# EAGLE library part TR24A (library X893)
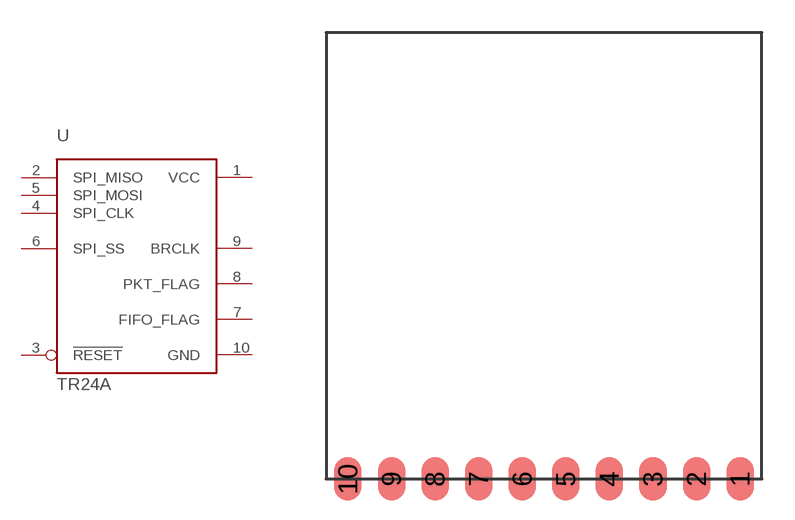
[diagram p4: symbol with the pads of TR24A; footprint TR24A]

Designator prefix -

## TR24A  [TR24A]
1  VCC
2  SPI_MISO
3  !RESET  in
4  SPI_CLK  in
5  SPI_MOSI  in
6  SPI_SS  in
7  FIFO_FLAG  out
8  PKT_FLAG  out
9  BRCLK  out
10  GND  pwr

## Footprint TR24A (pad centres in mm)
smd 1.27 x 2: 1 9,-10.25; 2 7,-10.25; 3 5,-10.25; 4 3,-10.25; 5 1,-10.25; 6 -1,-10.25; 7 -3,-10.25; 8 -5,-10.25; 9 -7,-10.25; 10 -9,-10.25